# EAGLE library part ESP32 (library ESP-32)
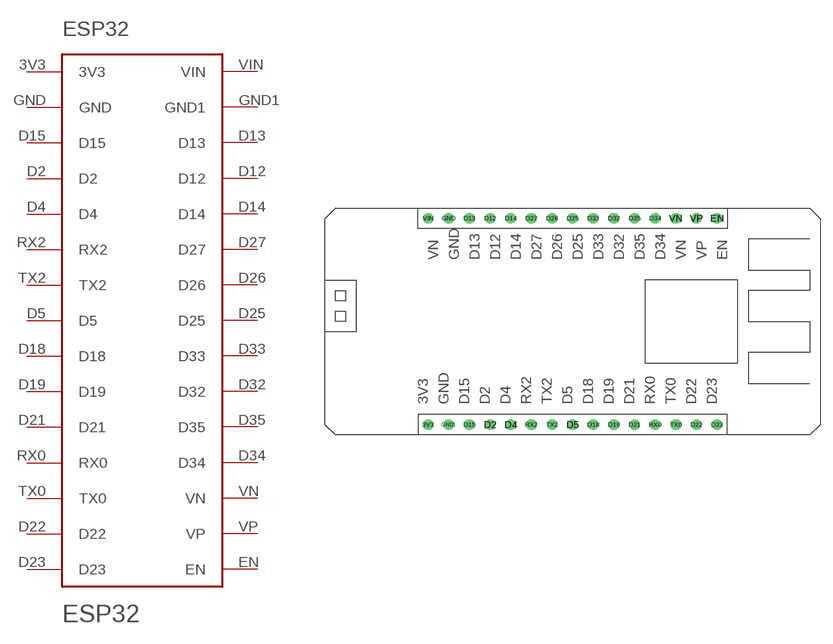
[diagram p0: symbol with the pads of ESP-32; footprint ESP-32]

Designator prefix ESP32

## ESP32  [ESP-32]
3V3  3V3
D2  D2
D4  D4
D5  D5
D12  D12
D13  D13
D14  D14
D15  D15
D18  D18
D19  D19
D21  D21
D22  D22
D23  D23
D25  D25
D26  D26
D27  D27
D32  D32
D33  D33
D34  D34
D35  D35
EN  EN
GND  GND
GND1  GND1
RX0  RX0
RX2  RX2
TX0  TX0
TX2  TX2
VIN  VIN
VN  VN
VP  VP

## Footprint ESP-32 (pad centres in mm)
drill 0.8: 3V3 12.7,-26.67; D2 20.32,-26.67; D4 22.86,-26.67; D5 30.48,-26.67; D12 20.32,-1.27; D13 17.78,-1.27; D14 22.86,-1.27; D15 17.78,-26.67; D18 33.02,-26.67; D19 35.56,-26.67; D21 38.1,-26.67; D22 45.72,-26.67; D23 48.26,-26.67; D25 30.48,-1.27; D26 27.94,-1.27; D27 25.4,-1.27; D32 35.56,-1.27; D33 33.02,-1.27; D34 40.64,-1.27; D35 38.1,-1.27; EN 48.26,-1.27; GND 15.24,-1.27; GND1 15.24,-26.67; RX0 40.64,-26.67; RX2 25.4,-26.67; TX0 43.18,-26.67; TX2 27.94,-26.67; VIN 12.7,-1.27; VN 43.18,-1.27; VP 45.72,-1.27